# Altium footprint library General_Devices.PcbLib: 25 footprints (part 2 of 2)
Each footprint in its own frame and in the unit in brackets; x right, y up, seen from the top. Pads: shape width x height; smd on the part's side, far side on the other; paste and mask are expansions set on the pad; w line width, h text height; cw(c..) or ccw(c..) is an arc to the next point about the centre after c.
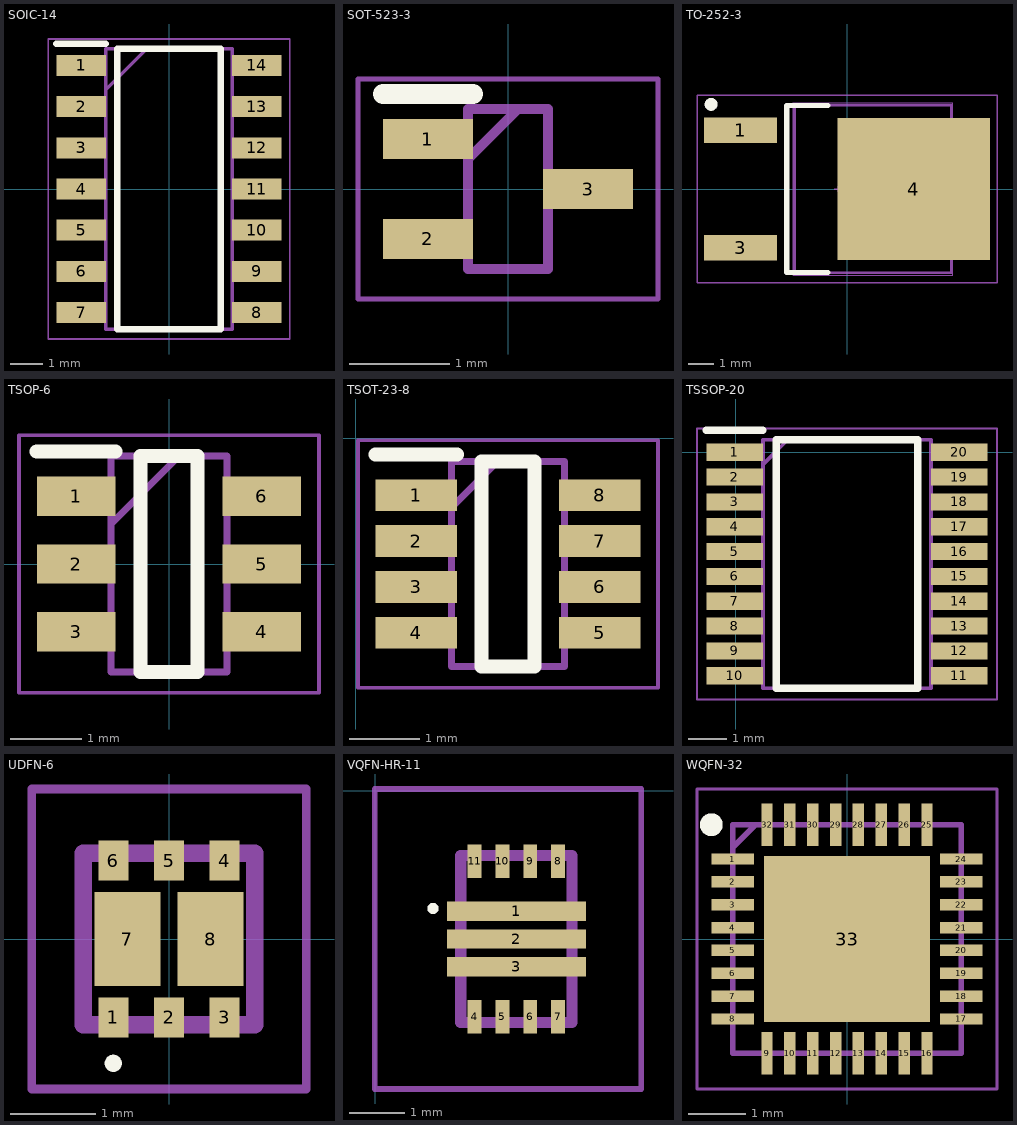
[diagram p1: the footprints below, top view; thin cyan lines are the x and y axes]

## SOIC-14 [mm]
pads (14):
  rect 1.525x0.65 smd: 1(-2.712,3.81) 2(-2.712,2.54) 3(-2.712,1.27) 4(-2.712,0) 5(-2.712,-1.27) 6(-2.712,-2.54) 7(-2.712,-3.81) 8(2.712,-3.81) 9(2.712,-2.54) 10(2.712,-1.27) 11(2.712,0) 12(2.712,1.27) 13(2.712,2.54) 14(2.712,3.81)
Top Overlay:
  lines w0.2: -3.475,4.485 -1.95,4.485 ; -1.6,-4.325 -1.6,4.325 1.6,4.325 1.6,-4.325 -1.6,-4.325
Top 3D Body:
  lines w0.1: -1.95,3.055 -0.68,4.325 ; -1.95,-4.325 -1.95,4.325 1.95,4.325 1.95,-4.325 -1.95,-4.325
Bottom 3D Body:
  lines w0.05: -3.725,-4.625 -3.725,4.625 3.725,4.625 3.725,-4.625 -3.725,-4.625
3D body "OPA4277UA.stp": height 1.75, standoff 0, extent -3.013,-4.315 3.013,4.335

## SOT-523-3 [mm]
pads (3):
  rect 0.9x0.4 smd: 1(-0.8,0.5) 2(-0.8,-0.5) 3(0.8,0)
Top Overlay:
  lines w0.2: -1.25,0.95 -0.35,0.95
Top 3D Body:
  lines w0.1: -0.4,0.3 0.1,0.8 ; -0.4,-0.8 0.4,-0.8 0.4,0.8 -0.4,0.8 -0.4,-0.8
Bottom 3D Body:
  lines w0.05: -1.5,-1.1 1.5,-1.1 1.5,1.1 -1.5,1.1 -1.5,-1.1
3D body "MMBT3904T-7-F.stp": height 0.9, standoff 0, extent -0.8,-0.8 0.8,0.8

## TO-252-3 [mm]
pads (3):
  rect 2.85x1 smd: 1(-4.15,2.29) 3(-4.15,-2.29)
  rect 5.95x5.55 smd: 4(2.6,0)
Top Overlay:
  circle w0.25: c-5.3,3.3 r0.125
  lines w0.2: -0.75,-3.25 -2.35,-3.25 -2.35,3.25 -0.75,3.25
Top 3D Body:
  lines w0.1: 4.062,-2.508 4.356,-2.508 4.952,-1.846 4.952,1.847 4.356,2.508 4.062,2.508 ; -2.032,-3.27 4.062,-3.27 4.062,3.27 -2.032,3.27 -2.032,-3.27
Bottom 3D Body:
  circle w0.05: c0,0 r0.35
  lines w0.001: -2.095,-3.365 4.125,-3.365 4.125,3.365 -2.095,3.365 -2.095,-3.365
  lines w0.05: -0.5,0 0.5,0 ; 0,-0.5 0,0.5 ; -5.85,-3.65 5.85,-3.65 5.85,3.65 -5.85,3.65 -5.85,-3.65
3D body "MBRD1035CTLT4G.stp": height 2.39, standoff 0, extent -4.959,-3.27 4.959,3.27

## TSOP-6 [mm]
pads (6):
  rect 1.1x0.55 smd: 1(-1.3,0.95) 2(-1.3,0) 3(-1.3,-0.95) 4(1.3,-0.95) 5(1.3,0) 6(1.3,0.95)
Top Overlay:
  lines w0.2: -1.85,1.575 -0.75,1.575 ; -0.4,-1.512 -0.4,1.512 0.4,1.512 0.4,-1.512 -0.4,-1.512
Top 3D Body:
  lines w0.1: -0.812,0.562 0.138,1.512 ; -0.812,-1.512 -0.812,1.512 0.812,1.512 0.812,-1.512 -0.812,-1.512
Bottom 3D Body:
  lines w0.05: -2.1,-1.8 -2.1,1.8 2.1,1.8 2.1,-1.8 -2.1,-1.8
3D body "SQ3419EV-T1_GE3.stp": height 1.1, standoff 0, extent -1.42,-1.512 1.42,1.512

## TSOT-23-8 [mm]
pads (8):
  rect 1.15x0.45 smd: 1(0.859,-0.803) 2(0.859,-1.453) 3(0.859,-2.103) 4(0.859,-2.753) 5(3.459,-2.753) 6(3.459,-2.103) 7(3.459,-1.453) 8(3.459,-0.803)
Top Overlay:
  lines w0.2: 0.284,-0.228 1.434,-0.228 ; 1.784,-3.228 2.534,-3.228 2.534,-0.328 1.784,-0.328 1.784,-3.228
Top 3D Body:
  lines w0.1: 1.359,-0.978 2.009,-0.328 ; 1.359,-3.228 2.959,-3.228 2.959,-0.328 1.359,-0.328 1.359,-3.228
Bottom 3D Body:
  lines w0.05: 0.034,-3.528 4.284,-3.528 4.284,-0.028 0.034,-0.028 0.034,-3.528
3D body "MP3418GJ-P.stp": height 1, standoff 0, extent 0.759,-3.228 3.559,-0.328

## TSSOP-20 [mm]
pads (20):
  rect 1.475x0.45 smd: 1(-0.025,0) 2(-0.025,-0.65) 3(-0.025,-1.3) 4(-0.025,-1.95) 5(-0.025,-2.6) 6(-0.025,-3.25) 7(-0.025,-3.9) 8(-0.025,-4.55) 9(-0.025,-5.2) 10(-0.025,-5.85) 11(5.851,-5.85) 12(5.851,-5.2) 13(5.851,-4.55) 14(5.851,-3.9) 15(5.851,-3.25) 16(5.851,-2.6) 17(5.851,-1.95) 18(5.851,-1.3) 19(5.851,-0.65) 20(5.851,0)
Top Overlay:
  lines w0.2: -0.762,0.575 0.713,0.575 ; 1.063,-6.175 4.763,-6.175 4.763,0.325 1.063,0.325 1.063,-6.175
Top 3D Body:
  lines w0.1: 0.713,-0.325 1.363,0.325 ; 0.713,-6.175 5.113,-6.175 5.113,0.325 0.713,0.325 0.713,-6.175
Bottom 3D Body:
  lines w0.05: -1.012,-6.475 6.838,-6.475 6.838,0.625 -1.012,0.625 -1.012,-6.475
3D body "STM32G030F6P6.stp": height 1.2, standoff 0, extent -0.287,-6.175 6.113,0.325

## UDFN-6 [mm] "The pins need to be adjusted to the corresponding pins"
pads (8):
  rect 0.35x0.47 smd: 1(-0.65,-0.915) 2(0,-0.915) 3(0.65,-0.915) 4(0.65,0.915) 5(0,0.915) 6(-0.65,0.915)
  rect 0.77x1.1 smd: 7(-0.485,0) 8(0.485,0)
Top Overlay:
  lines w0.1: -0.65,-1.5 cw(c-0.65,-1.45) -0.65,-1.4 cw(c-0.65,-1.45) -0.65,-1.5
Top 3D Body:
  lines w0.2: -1,-1 1,-1 1,1 -1,1 -1,-1
Bottom 3D Body:
  lines w0.1: -1.6,-1.75 1.6,-1.75 1.6,1.75 -1.6,1.75 -1.6,-1.75
3D body "NTLUD3A50PZTAG.stp": height 0.65, standoff 0, extent -1,-1.115 1,1.115

## VQFN-HR-11 [mm]
pads (11):
  rect 2.5x0.35 smd: 1(2.54,-2.167) 2(2.54,-2.667) 3(2.54,-3.167)
  rect 0.25x0.6 smd: 4(1.79,-4.067) 5(2.29,-4.067) 6(2.79,-4.067) 7(3.29,-4.067) 8(3.29,-1.267) 9(2.79,-1.267) 10(2.29,-1.267) 11(1.79,-1.267)
Top Overlay:
  lines w0.1: 1.04,-2.167 cw(c1.04,-2.117) 1.04,-2.067 cw(c1.04,-2.117) 1.04,-2.167
Top 3D Body:
  lines w0.2: 1.54,-4.167 1.54,-1.167 3.54,-1.167 3.54,-4.167 1.54,-4.167
Bottom 3D Body:
  lines w0.1: -0.01,-5.367 -0.01,0.033 4.79,0.033 4.79,-5.367 -0.01,-5.367
3D body "TPS62135RGXR.stp": height 1, standoff 0, extent 1.54,-4.207 3.54,-1.207

## WQFN-32 [mm]
pads (33):
  rect 0.75x0.2 smd: 1(-2,1.4) 2(-2,1) 3(-2,0.6) 4(-2,0.2) 5(-2,-0.2) 6(-2,-0.6) 7(-2,-1) 8(-2,-1.4) 17(2,-1.4) 18(2,-1) 19(2,-0.6) 20(2,-0.2) 21(2,0.2) 22(2,0.6) 23(2,1) 24(2,1.4)
  rect 0.2x0.75 smd: 9(-1.4,-2) 10(-1,-2) 11(-0.6,-2) 12(-0.2,-2) 13(0.2,-2) 14(0.6,-2) 15(1,-2) 16(1.4,-2) 25(1.4,2) 26(1,2) 27(0.6,2) 28(0.2,2) 29(-0.2,2) 30(-0.6,2) 31(-1,2) 32(-1.4,2)
  rect 2.9x2.9 smd: 33(0,0)
Top Overlay:
  circle w0.2: c-2.375,2 r0.1
Top 3D Body:
  lines w0.1: -2,1.6 -1.6,2 ; -2,-2 -2,2 2,2 2,-2 -2,-2
Bottom 3D Body:
  lines w0.05: -2.625,-2.625 -2.625,2.625 2.625,2.625 2.625,-2.625 -2.625,-2.625
3D body "BQ25703ARSNR.stp": height 0.8, standoff 0, extent -2,-2 2,2